# Altium footprint library Connectors.PcbLib: 17 footprints (part 1 of 2)
Each footprint in its own frame and in the unit in brackets; x right, y up, seen from the top. Pads: shape width x height; smd on the part's side, far side on the other; paste and mask are expansions set on the pad; w line width, h text height; cw(c..) or ccw(c..) is an arc to the next point about the centre after c.
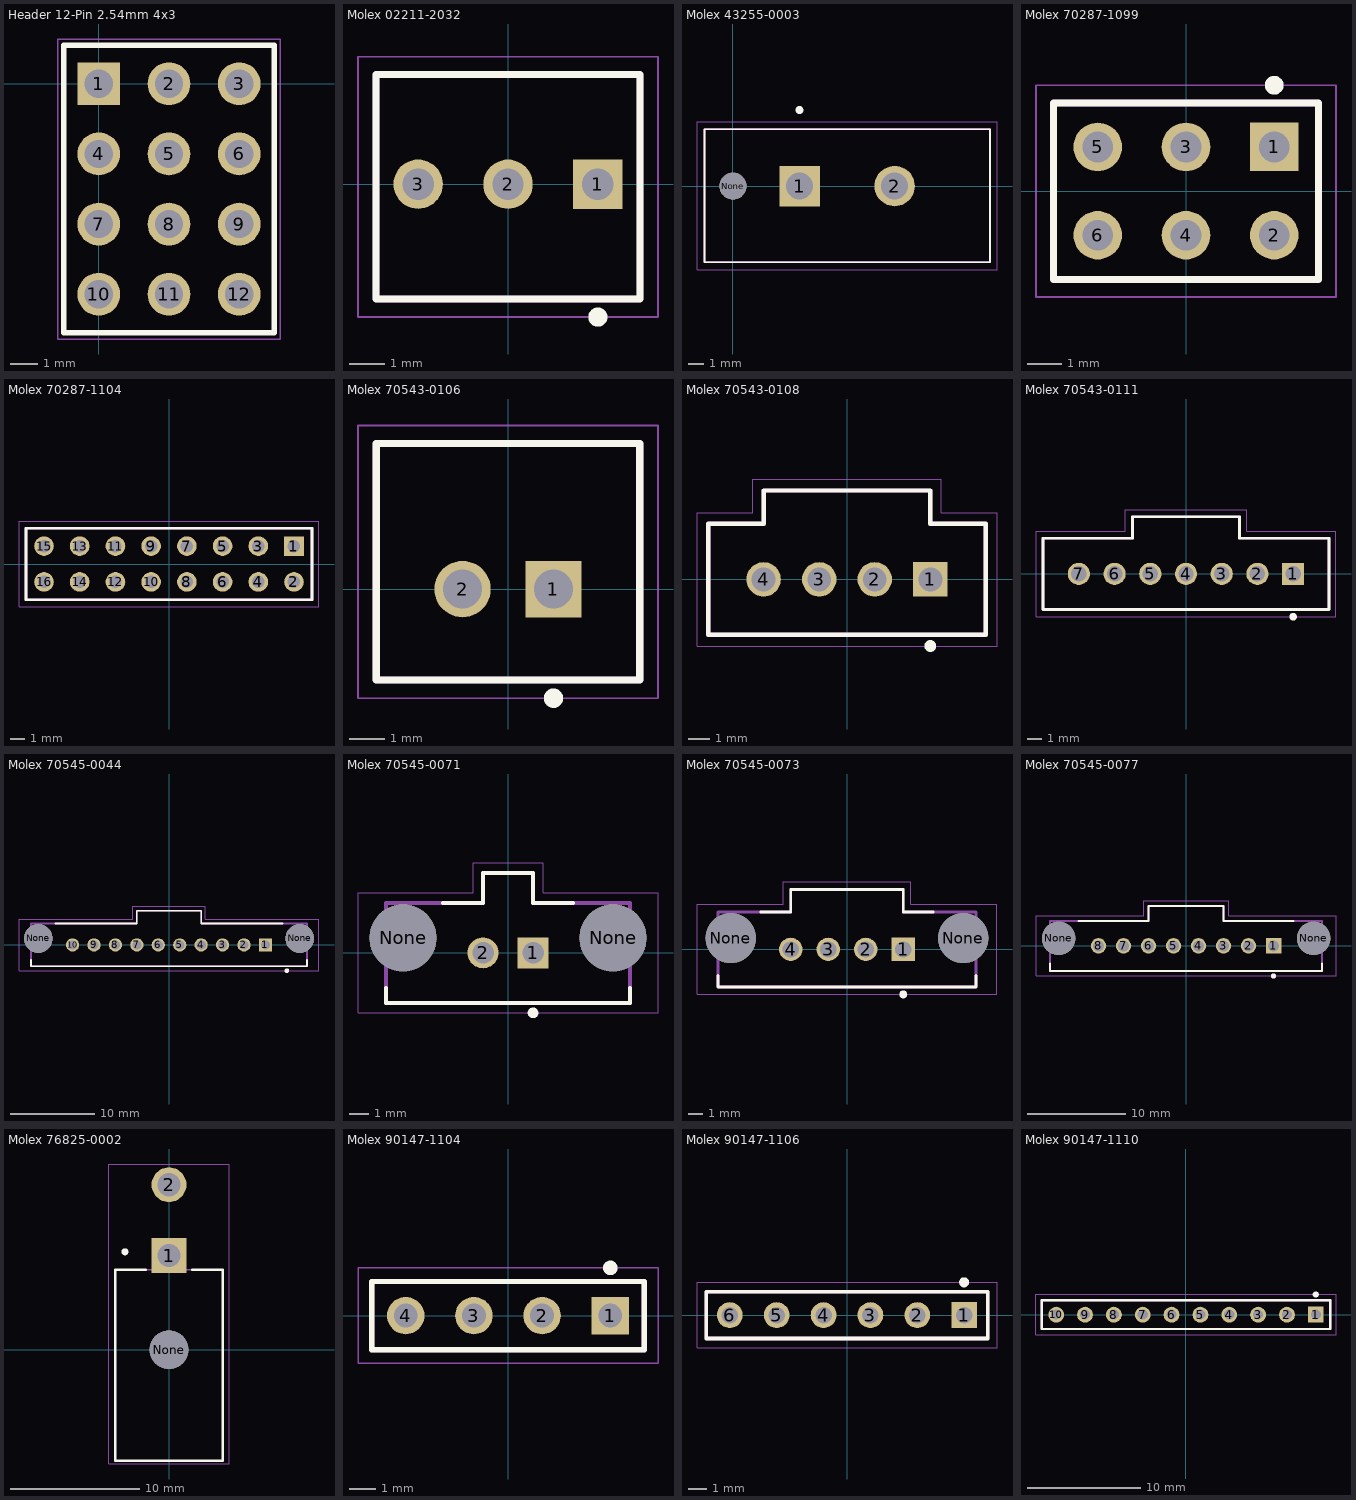
[diagram p0: the footprints below, top view; thin cyan lines are the x and y axes]

## Header 12-Pin 2.54mm 4x3 [mm] ".025 SQ Post Terminal Strip Assembly, 3x4 Pins, Vertical, 2.54mm Pitch, Male"
height 8.58
pads (12):
  rect 1.55x1.55 hole 1.02: 1(0,0)
  round 1.55 hole 1.02: 2(2.54,0) 3(5.08,0) 4(0,-2.54) 5(2.54,-2.54) 6(5.08,-2.54) 7(0,-5.08) 8(2.54,-5.08) 9(5.08,-5.08) 10(0,-7.62) 11(2.54,-7.62) 12(5.08,-7.62)
Top Overlay:
  lines w0.2: -1.27,-9.015 6.35,-9.015 6.35,1.395 -1.27,1.395 -1.27,-9.015
Top Assembly:
  lines w0.1: -1.27,-9.015 -1.27,1.395 6.35,1.395 6.35,-9.015 -1.27,-9.015
Top Courtyard:
  lines w0.05: -1.495,-9.24 -1.495,1.62 6.575,1.62 6.575,-9.24 -1.495,-9.24
3D body "TSW-104-07-X-T.step": height 8.38, standoff -2.54, extent -1.27,-8.89 6.35,1.27

## Molex 02211-2032 [mil] "KK254 3-Pin Header with Friction Lock"
pads (3):
  rect 55x55 hole 35: 1(100,0)
  round 55 hole 35: 2(0,0) 3(-100,0)
Top Overlay:
  circle w11.81: c100,-148 r4.72
  lines w7.87: -147,-128 -147,122 147,122 147,-128 -147,-128
Top Assembly:
  lines w7.87: -147,-128 147,-128 147,122 -147,122 -147,-128
Top Courtyard:
  lines w1.97: -167,-148 -167,142 167,142 167,-148 -167,-148
3D body "MOLEX_02211-2032.stp": height 421.5, standoff -138.5, extent -147,-128 147,122

## Molex 43255-0003 [mm] "MLX 2-Pin PCB Header"
height 13.97
pads (3):
  rect 2.7x2.7 hole 1.8: 1(4.445,0)
  round 2.7 hole 1.8: 2(10.795,0)
  round 1.8 hole 1.8 unplated: None(0,0)
Top Overlay:
  circle w0.3: c4.44,5.075 r0.116
  lines w0.127: -1.905,-5.08 17.145,-5.08 17.145,3.795 -1.905,3.795 -1.905,-5.08
Top Assembly:
  lines w0.127: -1.9,-5.075 -1.9,3.8 17.15,3.8 17.15,-5.075 -1.9,-5.075
Top Courtyard:
  lines w0.05: -2.4,-5.575 -2.4,4.3 17.625,4.3 17.625,-5.575 -2.4,-5.575
3D body "MOLEX_43255-0003.stp": height 14.73, standoff -4.32, extent -1.905,-5.08 17.145,3.81

## Molex 70287-1099 [mil] "C-Grid 2.54mm 6-Pin (3x2) Male Header"
pads (6):
  rect 55x55 hole 35: 1(100,50)
  round 55 hole 35: 2(100,-50) 3(0,50) 4(0,-50) 5(-100,50) 6(-100,-50)
Top Overlay:
  circle w11.81: c100,120 r4.72
  lines w7.87: -150,-100 150,-100 150,100 -150,100 -150,-100
Top Assembly:
  lines w7.87: -150,-100 -150,100 150,100 150,-100 -150,-100
Top Courtyard:
  lines w1.97: -170,-120 -170,120 170,120 170,-120 -170,-120
3D body "MOLEX_70287-1099.stp": height 331, standoff -124, extent -150,-100 150,100

## Molex 70287-1104 [mil] "C-Grid 2.54mm 16-Pin (8x2) Male Header"
pads (16):
  rect 55x55 hole 35: 1(350,50)
  round 55 hole 35: 2(350,-50) 3(250,50) 4(250,-50) 5(150,50) 6(150,-50) 7(50,50) 8(50,-50) 9(-50,50) 10(-50,-50) 11(-150,50) 12(-150,-50) 13(-250,50) 14(-250,-50) 15(-350,50) 16(-350,-50)
Top Overlay:
  lines w7.87: -400,-100 -400,100 400,100 400,-100 -400,-100
Top Assembly:
  lines w7.87: -400,-100 400,-100 400,100 -400,100 -400,-100
Top Courtyard:
  lines w1.97: -420,-120 420,-120 420,120 -420,120 -420,-120
3D body "MOLEX_70287-1104.stp": height 331, standoff -124, extent -400,-100 400,100

## Molex 70543-0106 [mil] "2-Pin SL Vertical Header with Latch and No Pegs"
height 450
pads (2):
  rect 62x62 hole 43: 1(50,0)
  round 62 hole 43: 2(-50,0)
Top Overlay:
  circle w11.81: c50,-120 r4.72
  lines w7.87: -145,-100 145,-100 145,160 -145,160 -145,-100
Top Assembly:
  lines w7.87: -145,-100 -145,160 145,160 145,-100 -145,-100
Top Courtyard:
  lines w1.97: -165,-120 -165,180 165,180 165,-120 -165,-120
3D body "MOLEX_70543-0106.stp": height 466, standoff -129, extent -145,-100 145,160

## Molex 70543-0108 [mil] "4-Pin SL Vertical Header with Latch and No Pegs"
height 450
pads (4):
  rect 62x62 hole 43: 1(150,0)
  round 62 hole 43: 2(50,0) 3(-50,0) 4(-150,0)
Top Overlay:
  circle w11.81: c150,-120 r4.72
  lines w7.87: -250,-100 250,-100 250,100 150,100 150,160 -150,160 -150,100 -250,100 -250,-100
Top Assembly:
  lines w7.87: -250,-100 -250,100 -150,100 -150,160 150,160 150,100 250,100 250,-100 -250,-100
Top Courtyard:
  lines w1.97: -270,-120 270,-120 270,120 170,120 170,180 -170,180 -170,120 -270,120 -270,-120
3D body "MOLEX_70543-0108.stp": height 466, standoff -129, extent -250,-100 250,160

## Molex 70543-0111 [mil] "7-Pin SL Vertical Header with Latch and No Pegs"
height 450
pads (7):
  rect 62x62 hole 43: 1(300,0)
  round 62 hole 43: 2(200,0) 3(100,0) 4(0,0) 5(-100,0) 6(-200,0) 7(-300,0)
Top Overlay:
  circle w11.81: c300,-120 r4.72
  lines w7.87: -400,-100 -400,100 -150,100 -150,160 150,160 150,100 400,100 400,-100 -400,-100
Top Assembly:
  lines w7.87: -400,-100 400,-100 400,100 150,100 150,160 -150,160 -150,100 -400,100 -400,-100
Top Courtyard:
  lines w1.97: -420,-120 -420,120 -170,120 -170,180 170,180 170,120 420,120 420,-120 -420,-120
3D body "MOLEX_70543-0111.stp": height 466, standoff -129, extent -400,-100 400,160

## Molex 70545-0044 [mil] "10-Pin SL Vertical Header with Latch and Pegs"
height 450
pads (12):
  rect 62x62 hole 43: 1(450,0)
  round 62 hole 43: 2(350,0) 3(250,0) 4(150,0) 5(50,0) 6(-50,0) 7(-150,0) 8(-250,0) 9(-350,0) 10(-450,0)
  round 134 hole 134 unplated: None(-610,30) None(610,30)
Top Overlay:
  circle w11.81: c550,-120 r4.72
  lines w7.87: -644,-70 -644,-100 644,-100 644,-70 ; -530,100 -150,100 -150,160 150,160 150,100 530,100
Top Assembly:
  lines w7.87: -644,-100 -644,100 -150,100 -150,160 150,160 150,100 644,100 644,-100 -644,-100
Top Courtyard:
  lines w1.97: -700,-120 700,-120 700,120 170,120 170,180 -170,180 -170,120 -700,120 -700,-120
3D body "MOLEX_70545-0044.stp": height 466, standoff -129, extent -644,-100 644,160

## Molex 70545-0071 [mil] "2-Pin SL Vertical Header with Latch and Pegs"
height 450
pads (4):
  rect 62x62 hole 43: 1(50,0)
  round 62 hole 43: 2(-50,0)
  round 134 hole 134 unplated: None(-210,30) None(210,30)
Top Overlay:
  circle w11.81: c50,-120 r4.72
  lines w7.87: -244,-70 -244,-100 244,-100 244,-70 ; -130,100 -50,100 -50,160 50,160 50,100 130,100
Top Assembly:
  lines w7.87: -244,-100 -244,100 -50,100 -50,160 50,160 50,100 244,100 244,-100 -244,-100
Top Courtyard:
  lines w1.97: -300,-120 300,-120 300,120 70,120 70,180 -70,180 -70,120 -300,120 -300,-120
3D body "MOLEX_70545-0071.stp": height 466, standoff -129, extent -244,-100 244,160

## Molex 70545-0073 [mil] "4-Pin SL Vertical Header with Latch and Pegs"
height 450
pads (6):
  rect 62x62 hole 43: 1(150,0)
  round 62 hole 43: 2(50,0) 3(-50,0) 4(-150,0)
  round 134 hole 134 unplated: None(-310,30) None(310,30)
Top Overlay:
  circle w11.81: c150,-120 r4.72
  lines w7.87: -344,-70 -344,-100 344,-100 344,-70 ; -230,100 -150,100 -150,160 150,160 150,100 230,100
Top Assembly:
  lines w7.87: -344,-100 -344,100 -150,100 -150,160 150,160 150,100 344,100 344,-100 -344,-100
Top Courtyard:
  lines w1.97: -400,-120 400,-120 400,120 170,120 170,180 -170,180 -170,120 -400,120 -400,-120
3D body "MOLEX_70545-0073.stp": height 466, standoff -129, extent -344,-100 344,160

## Molex 70545-0077 [mil] "8-Pin SL Vertical Header with Latch and Pegs"
height 450
pads (10):
  rect 62x62 hole 43: 1(350,0)
  round 62 hole 43: 2(250,0) 3(150,0) 4(50,0) 5(-50,0) 6(-150,0) 7(-250,0) 8(-350,0)
  round 134 hole 134 unplated: None(-510,30) None(510,30)
Top Overlay:
  circle w11.81: c350,-120 r4.72
  lines w7.87: -544,-70 -544,-100 544,-100 544,-70 ; -430,100 -150,100 -150,160 150,160 150,100 430,100
Top Assembly:
  lines w7.87: -544,-100 -544,100 -150,100 -150,160 150,160 150,100 544,100 544,-100 -544,-100
Top Courtyard:
  lines w1.97: -600,-120 600,-120 600,120 170,120 170,180 -170,180 -170,120 -600,120 -600,-120
3D body "MOLEX_70545-0077.stp": height 466, standoff -129, extent -544,-100 544,160

## Molex 76825-0002 [mm] "Mega-Fit 2-Pin PCB Header"
height 14.53
pads (3):
  rect 2.7x2.7 hole 1.8: 1(0,7.3)
  round 2.7 hole 1.8: 2(0,12.8)
  round 3 hole 3 unplated: None(0,0)
Top Overlay:
  circle w0.3: c-3.414,7.598 r0.12
  lines w0.2: -1.8,6.2 -4.175,6.2 -4.175,-8.6 4.175,-8.6 4.175,6.2 1.8,6.2
Top Assembly:
  lines w0.127: -4.175,-8.6 4.175,-8.6 4.175,6.2 -4.175,6.2 -4.175,-8.6
Top Courtyard:
  lines w0.05: -4.675,-8.85 4.675,-8.85 4.675,14.4 -4.675,14.4 -4.675,-8.85
  lines w0.1: -0.5,0 0.5,0 ; 0,-0.5 0,0.5
3D body "MOLEX_76825-0002.stp": height 14.57, standoff -3.56, extent -4.175,-8.6 4.175,13.362

## Molex 90147-1104 [mil] "C-Grid III 2.54mm 4-Pin PC Board Connector"
pads (4):
  rect 55x55 hole 35: 1(150,0)
  round 55 hole 35: 2(50,0) 3(-50,0) 4(-150,0)
Top Overlay:
  circle w11.81: c150,70 r4.72
  lines w7.87: -200,-50 -200,50 200,50 200,-50 -200,-50
Top Assembly:
  lines w7.87: -200,-50 200,-50 200,50 -200,50 -200,-50
Top Courtyard:
  lines w1.97: -220,-70 -220,70 220,70 220,-70 -220,-70
3D body "MOLEX_90147-1104.stp": height 336.32, standoff -112.5, extent -200,-50 200,50

## Molex 90147-1106 [mil] "C-Grid III 2.54mm 6-Pin PC Board Connector"
pads (6):
  rect 55x55 hole 35: 1(250,0)
  round 55 hole 35: 2(150,0) 3(50,0) 4(-50,0) 5(-150,0) 6(-250,0)
Top Overlay:
  circle w11.81: c250,70 r4.72
  lines w7.87: -300,-50 300,-50 300,50 -300,50 -300,-50
Top Assembly:
  lines w7.87: -300,-50 300,-50 300,50 -300,50 -300,-50
Top Courtyard:
  lines w1.97: -320,-70 -320,70 320,70 320,-70 -320,-70
3D body "MOLEX_90147-1106.stp": height 336.32, standoff -112.5, extent -300,-50 300,50

## Molex 90147-1110 [mil] "C-Grid III 2.54mm 10-Pin PC Board Connector"
pads (10):
  rect 55x55 hole 35: 1(450,0)
  round 55 hole 35: 2(350,0) 3(250,0) 4(150,0) 5(50,0) 6(-50,0) 7(-150,0) 8(-250,0) 9(-350,0) 10(-450,0)
Top Overlay:
  circle w11.81: c450,70 r4.72
  lines w7.87: -500,-50 -500,50 500,50 500,-50 -500,-50
Top Assembly:
  lines w7.87: -500,-50 500,-50 500,50 -500,50 -500,-50
Top Courtyard:
  lines w1.97: -520,-70 -520,70 520,70 520,-70 -520,-70
3D body "MOLEX_90147-1110.stp": height 336.32, standoff -112.5, extent -500,-50 500,50